# Altium footprint library BLM18SG121TN1D.PcbLib: 3 footprints
Each footprint in its own frame and in the unit in brackets; x right, y up, seen from the top. Pads: shape width x height; smd on the part's side, far side on the other; paste and mask are expansions set on the pad; w line width, h text height; cw(c..) or ccw(c..) is an arc to the next point about the centre after c.
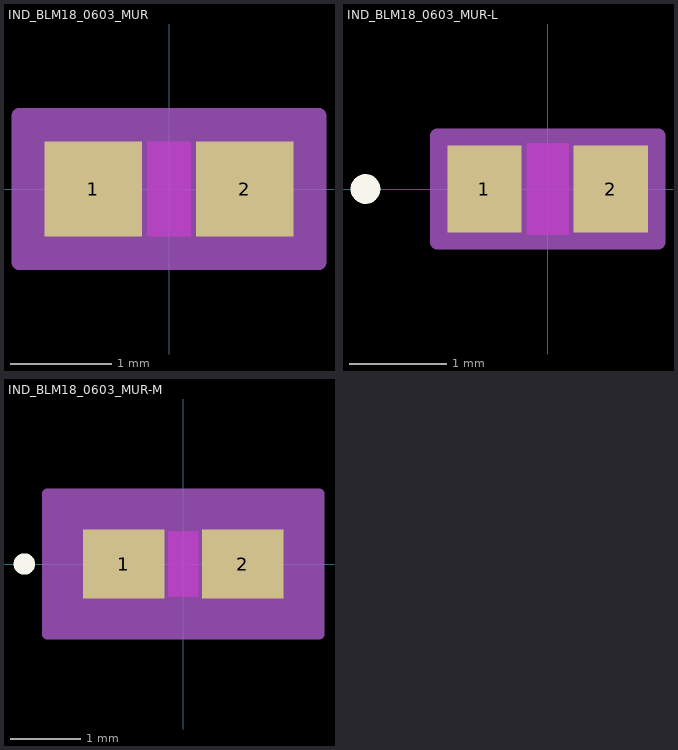
[diagram p0: the footprints below, top view; thin cyan lines are the x and y axes]

## IND_BLM18_0603_MUR [mil]
pads (2):
  rect 38x37 smd paste+0 mask+0: 1(-29.5,0) 2(29.5,0)
Top Layer keep-out:
  region: -8.5,-16.5 -8.5,16.5 8.5,16.5 8.5,-16.5
Keep-Out Layer:
  region: -8.5,-18.5 -8.5,18.5 8.5,18.5 8.5,-18.5
Mechanical 13:
  circle w0: c-24.5,0 r0
  lines w1: -34.5,-18.5 -34.5,18.5 ; -34.5,-18.5 -10.5,-18.5 -10.5,18.5 -34.5,18.5 ; -34.5,-18.5 34.5,-18.5 ; -34.5,-18.5 -34.5,18.5 ; -34.5,18.5 34.5,18.5 ; 34.5,-18.5 10.5,-18.5 10.5,18.5 34.5,18.5 ; 34.5,-18.5 34.5,18.5 ; 34.5,-18.5 34.5,18.5
Mechanical 15:
  region: 58.5,-28.5 -58.5,-28.5 -58.5,28.5 58.5,28.5
  lines w6: -58.5,-28.5 -58.5,28.5 58.5,28.5 58.5,-28.5 -58.5,-28.5
3D body "IND_BLM18_0603_MUR.step": height 37.01, standoff 0, extent -34.49,-18.5 34.49,18.5

## IND_BLM18_0603_MUR-L [mil]
pads (2):
  rect 30x35 smd paste+0 mask+0: 1(-25.5,0) 2(25.5,0)
Top Layer keep-out:
  region: -8.5,-16.5 -8.5,16.5 8.5,16.5 8.5,-16.5
Top Overlay:
  circle w6: c-73.5,0 r3
Keep-Out Layer:
  region: -8.5,-18.5 -8.5,18.5 8.5,18.5 8.5,-18.5
Mechanical 13:
  circle w0: c-20.5,0 r3
  lines w1: -34.5,-18.5 -34.5,18.5 ; -34.5,-18.5 -10.5,-18.5 -10.5,18.5 -34.5,18.5 ; -34.5,-18.5 34.5,-18.5 ; -34.5,-18.5 -34.5,18.5 ; -34.5,18.5 34.5,18.5 ; 34.5,-18.5 10.5,-18.5 10.5,18.5 34.5,18.5 ; 34.5,-18.5 34.5,18.5 ; 34.5,-18.5 34.5,18.5
Mechanical 15:
  region: 44.5,-21.5 -44.5,-21.5 -44.5,21.5 44.5,21.5
  lines w6: -44.5,-21.5 -44.5,21.5 44.5,21.5 44.5,-21.5 -44.5,-21.5
3D body "IND_BLM18_0603_MUR.step": height 37.01, standoff 0, extent -34.49,-18.5 34.49,18.5

## IND_BLM18_0603_MUR-M [mil]
pads (2):
  rect 46x39 smd paste+0 mask+0: 1(-33.5,0) 2(33.5,0)
Top Layer keep-out:
  region: -8.5,-16.5 -8.5,16.5 8.5,16.5 8.5,-16.5
Top Overlay:
  circle w6: c-89.5,0 r3
Keep-Out Layer:
  region: -8.5,-18.5 -8.5,18.5 8.5,18.5 8.5,-18.5
Mechanical 13:
  circle w0: c-28.5,0 r3
  lines w1: -34.5,-18.5 -34.5,18.5 ; -34.5,-18.5 -10.5,-18.5 -10.5,18.5 -34.5,18.5 ; -34.5,-18.5 34.5,-18.5 ; -34.5,-18.5 -34.5,18.5 ; -34.5,18.5 34.5,18.5 ; 34.5,-18.5 10.5,-18.5 10.5,18.5 34.5,18.5 ; 34.5,-18.5 34.5,18.5 ; 34.5,-18.5 34.5,18.5
Mechanical 15:
  region: 76.5,-39.5 -76.5,-39.5 -76.5,39.5 76.5,39.5
  lines w6: -76.5,-39.5 -76.5,39.5 76.5,39.5 76.5,-39.5 -76.5,-39.5
3D body "IND_BLM18_0603_MUR.step": height 37.01, standoff 0, extent -34.49,-18.5 34.49,18.5